# Altium schematic symbol library L CTX50.SchLib: 1 symbol
Pins are listed as number, name and electrical type; pins without a type are passive.

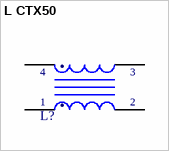
[diagram p0: symbol L CTX50]

## L CTX50
designator L?, comment CTX50  (value not drawn)
Inductor, Power
pins: 1, 2, 3, 4
text: .